# EAGLE library part JACK-T568A (library greg-Connector)
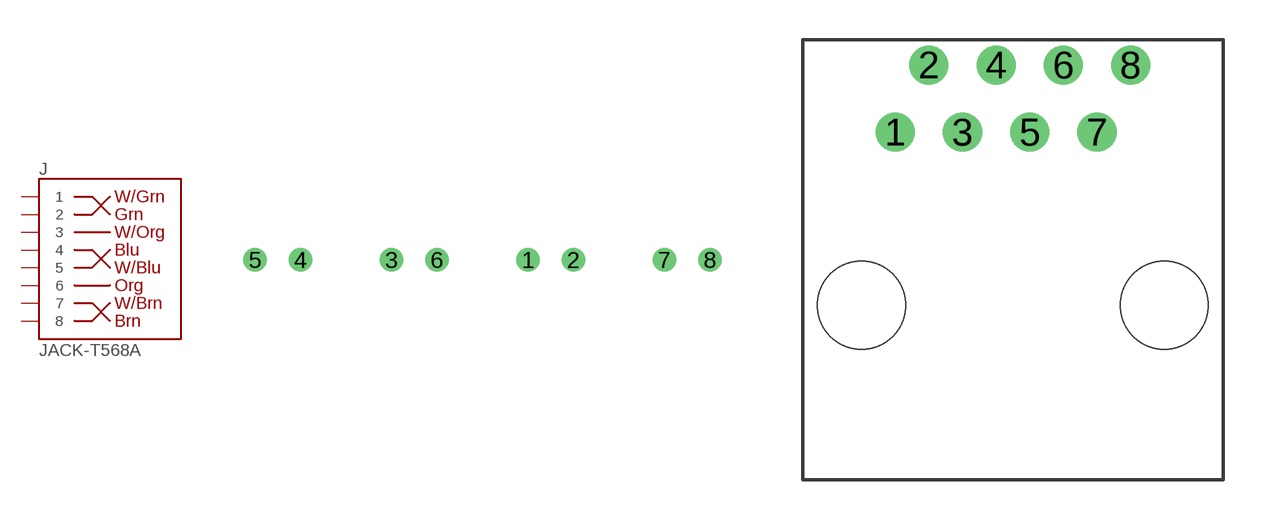
[diagram p13: symbol with the pads of STEWART-SS-51000-003; footprints STEWART-SS-51000-003, TE-5520260-4]

Designator prefix J

## JACK-T568APUNCHDOWN  [STEWART-SS-51000-003]
1  1
2  2
3  3
4  4
5  5
6  6
7  7
8  8

## JACK-T568AVERT-JACK  [TE-5520260-4]
Pads as for STEWART-SS-51000-003

## Footprint STEWART-SS-51000-003 (pad centres in mm)
drill 1.15: 1 3.3,0; 2 6.6,0; 3 -6.61,0; 4 -13.22,0; 5 -16.52,0; 6 -3.31,0; 7 13.21,0; 8 16.51,0

## Footprint TE-5520260-4 (pad centres in mm)
drill 0.97: 1 -4.445,6.53; 2 -3.175,9.07; 3 -1.905,6.53; 4 -0.635,9.07; 5 0.635,6.53; 6 1.905,9.07; 7 3.175,6.53; 8 4.445,9.07
hole 3.33 at 5.715,0
hole 3.33 at -5.715,0